# Altium integrated library SLG59M1495VTR.IntLib: 1 symbol
Pins are listed as number, name and electrical type; pins without a type are passive.

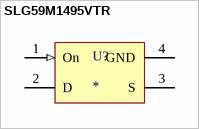
[diagram p0: symbol SLG59M1495VTR]

## SLG59M1495VTR
designator U?
footprint SLG59M1495VTR
pins: 1 On (in), 2 D (power), 3 S (power), 4 GND (power)